# EAGLE library part LSA-PLUS_8-PIN (library con-kone LSA)
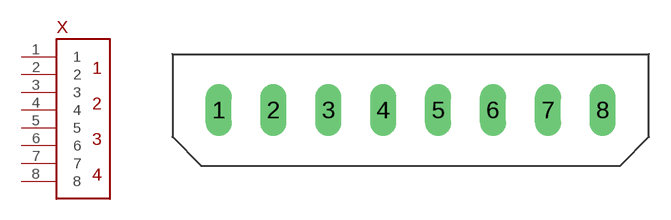
[diagram p1: symbol with the pads of LSA8; footprint LSA8]

Designator prefix X

## LSA-PLUS_8-PIN  [LSA8]
1  1
2  2
3  3
4  4
5  5
6  6
7  7
8  8

## Footprint LSA8 (pad centres in mm)
drill 1.2 long: 1 -13.335,0; 2 -9.525,0; 3 -5.715,0; 4 -1.905,0; 5 1.905,0; 6 5.715,0; 7 9.525,0; 8 13.335,0